# EAGLE library part HY2110-DB (library usb)
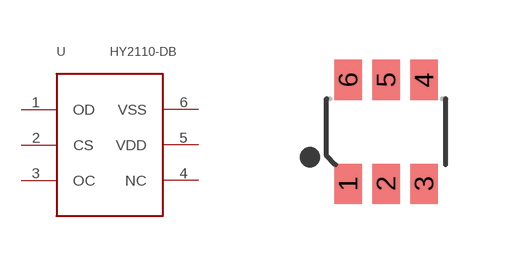
[diagram p24: symbol with the pads of SOT-23-6; footprint SOT-23-6]

Designator prefix U

## HY2110-DB  [SOT-23-6]
1  OD
2  CS
3  OC
4  NC
5  VDD
6  VSS

## Footprint SOT-23-6 (pad centres in mm)
smd 0.69 x 1: 1 -0.95,-1.3; 2 0,-1.3; 3 0.95,-1.3; 4 0.95,1.3; 5 0,1.3; 6 -0.95,1.3